# EAGLE library part STKSIGTOP (library con-samtec-ips1)
Signal Connector, Top side of Board Modular Demo Stacking Connector
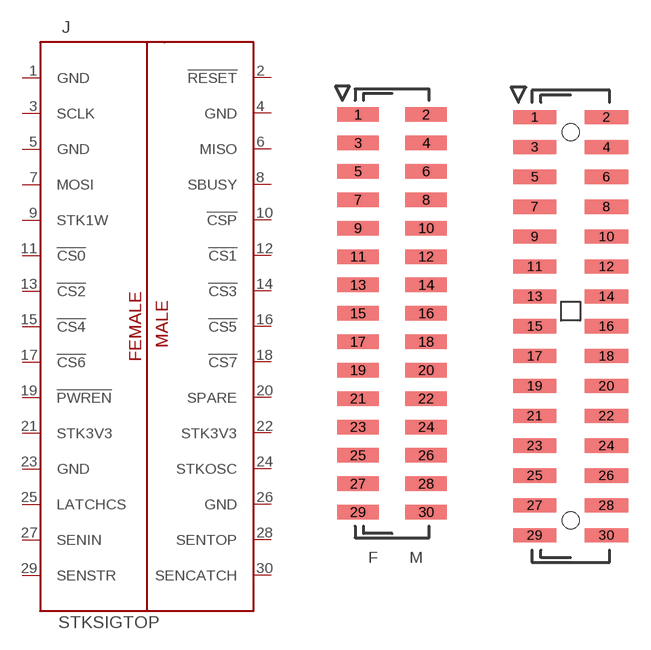
[diagram p19: symbol with the pads of LS2-115-02-F-D; footprints LS2-115-02-F-D, LS2-115-02-CUSTOM]

Designator prefix J

## STKSIGTOP  [LS2-115-02-F-D]
1  GND  pas
2  !RESET  pas
3  SCLK  pas
4  GND  pas
5  GND  pas
6  MISO  pas
7  MOSI  pas
8  SBUSY  pas
9  STK1W  pas
10  !CSP  pas
11  !CS0  pas
12  !CS1  pas
13  !CS2  pas
14  !CS3  pas
15  !CS4  pas
16  !CS5  pas
17  !CS6  pas
18  !CS7  pas
19  !PWREN  pas
20  SPARE  pas
21  STK3V3  pas
22  STK3V3  pas
23  GND  pas
24  STKOSC  pas
25  LATCHCS  pas
26  GND  pas
27  SENIN  pas
28  SENTOP  pas
29  SENSTR  pas
30  SENCATCH  pas

## STKSIGTOPCUSTOM  [LS2-115-02-CUSTOM]
Pads as for LS2-115-02-F-D

## STKSIGTOPNOPASTE  [LS2-115-02-CUSTOMNOPASTE]
Pads as for LS2-115-02-F-D

## Footprint LS2-115-02-F-D (pad centres in mm)
Samtech LS2 2mm Hemaphoraditic header 2mm pitch, 2 x 15 = 30 pin
smd 2.92 x 1.02: 1 -2.4,14; 2 2.4,14; 3 -2.4,12; 4 2.4,12; 5 -2.4,10; 6 2.4,10; 7 -2.4,8; 8 2.4,8; 9 -2.4,6; 10 2.4,6; 11 -2.4,4; 12 2.4,4; 13 -2.4,2; 14 2.4,2; 15 -2.4,0; 16 2.4,0; 17 -2.4,-2; 18 2.4,-2; 19 -2.4,-4; 20 2.4,-4; 21 -2.4,-6; 22 2.4,-6; 23 -2.4,-8; 24 2.4,-8; 25 -2.4,-10; 26 2.4,-10; 27 -2.4,-12; 28 2.4,-12; 29 -2.4,-14; 30 2.4,-14

## Footprint LS2-115-02-CUSTOM (pad centres in mm)
smd 2.9 x 0.95: 1 -2.4,14; 2 2.4,14; 3 -2.4,12; 4 2.4,12; 5 -2.4,10; 6 2.4,10; 7 -2.4,8; 8 2.4,8; 9 -2.4,6; 10 2.4,6; 11 -2.4,4; 12 2.4,4; 13 -2.4,2; 14 2.4,2; 15 -2.4,0; 16 2.4,0; 17 -2.4,-2; 18 2.4,-2; 19 -2.4,-4; 20 2.4,-4; 21 -2.4,-6; 22 2.4,-6; 23 -2.4,-8; 24 2.4,-8; 25 -2.4,-10; 26 2.4,-10; 27 -2.4,-12; 28 2.4,-12; 29 -2.4,-14; 30 2.4,-14
hole 1.143 at 0,13.005
hole 1.143 at 0,-13.005

## Footprint LS2-115-02-CUSTOMNOPASTE (pad centres in mm)
smd 2.9 x 0.95: 1 -2.4,14; 2 2.4,14; 3 -2.4,12; 4 2.4,12; 5 -2.4,10; 6 2.4,10; 7 -2.4,8; 8 2.4,8; 9 -2.4,6; 10 2.4,6; 11 -2.4,4; 12 2.4,4; 13 -2.4,2; 14 2.4,2; 15 -2.4,0; 16 2.4,0; 17 -2.4,-2; 18 2.4,-2; 19 -2.4,-4; 20 2.4,-4; 21 -2.4,-6; 22 2.4,-6; 23 -2.4,-8; 24 2.4,-8; 25 -2.4,-10; 26 2.4,-10; 27 -2.4,-12; 28 2.4,-12; 29 -2.4,-14; 30 2.4,-14
hole 1.143 at 0,13.005
hole 1.143 at 0,-13.005